# Altium schematic symbol library 学习.SchLib: 85 symbols
Pins are listed as number, name and electrical type; pins without a type are passive.

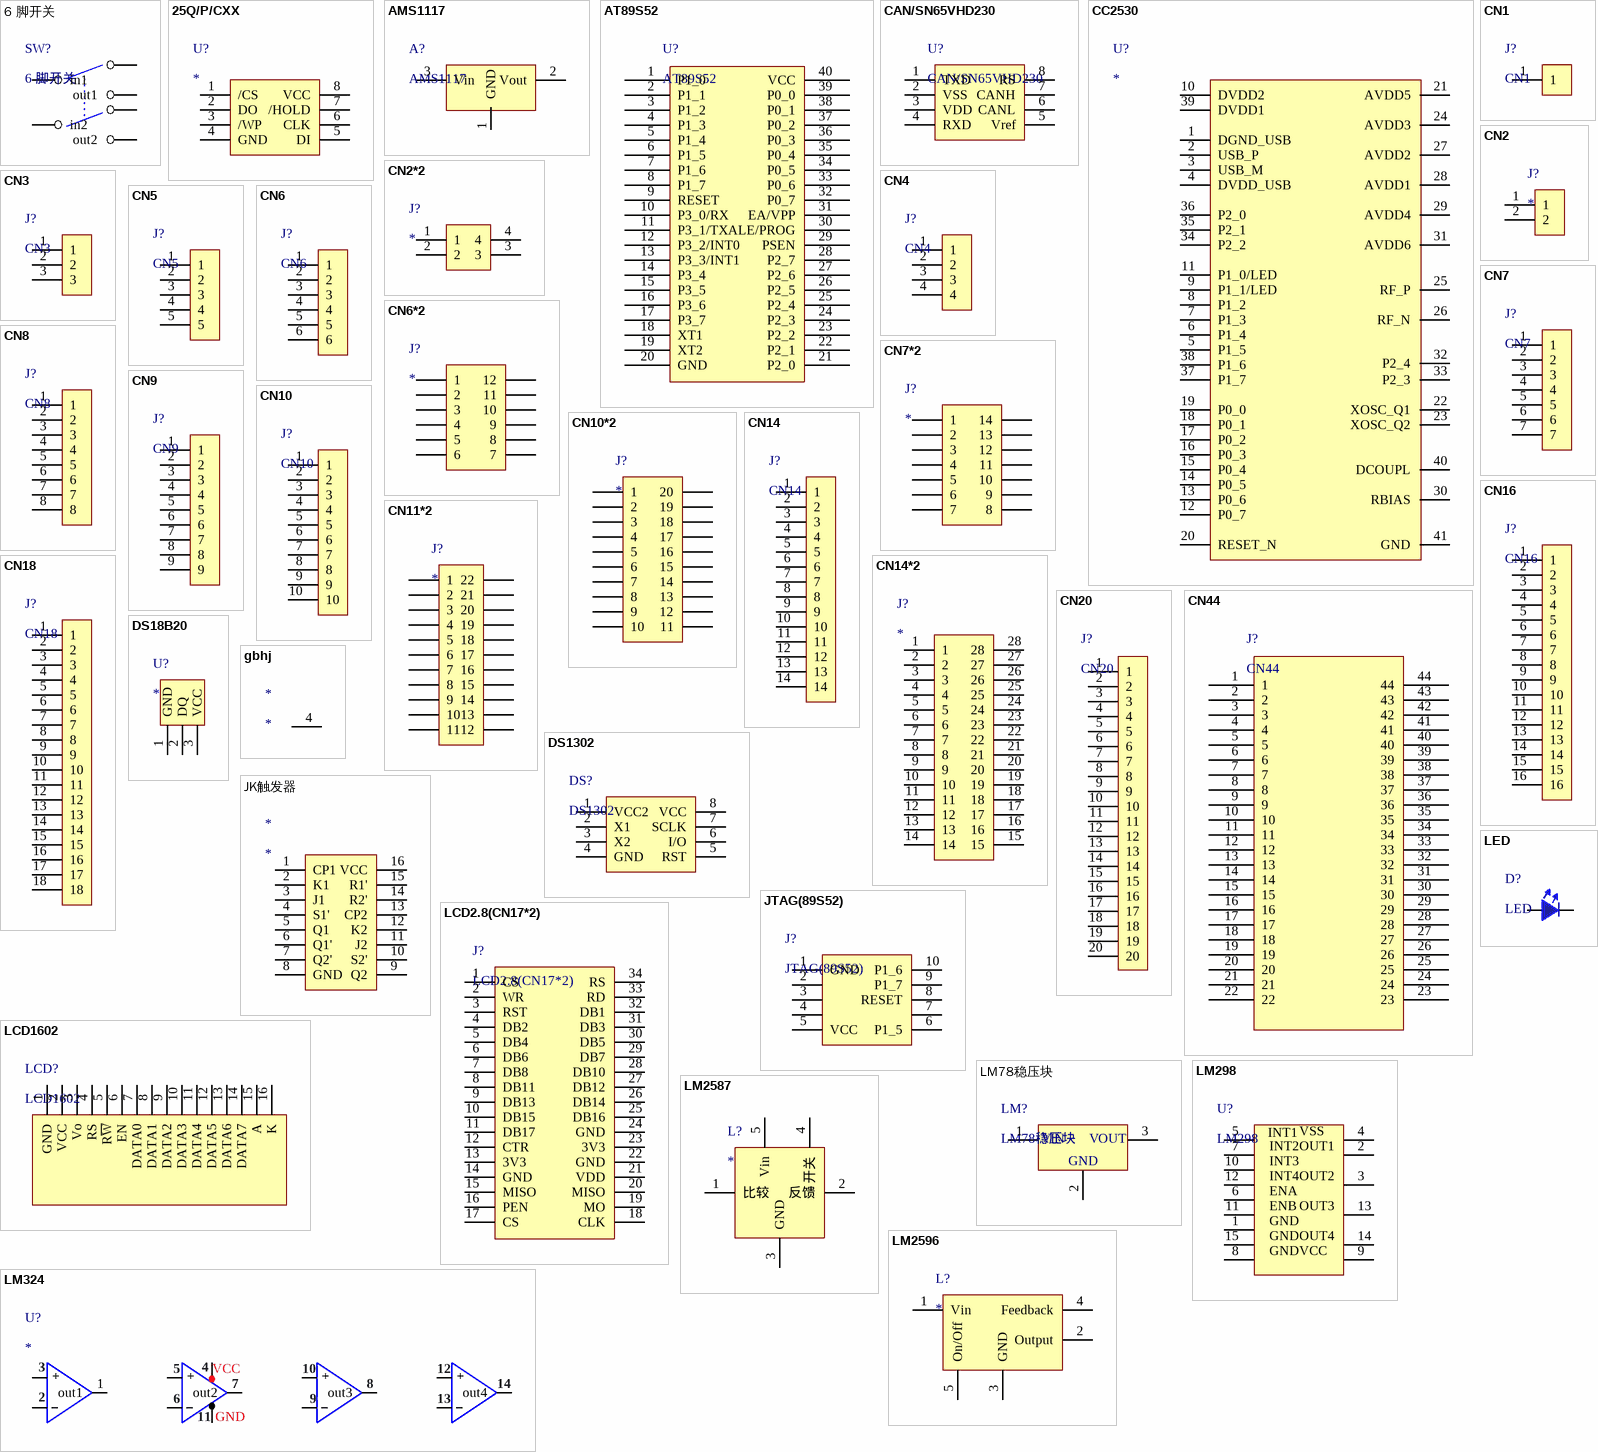
[diagram p0: symbols 6 脚开关 to LM2596]

## 6 脚开关
designator SW?
footprint 6 脚开关
footprint 6脚扳动开关
pins: 1 in1, 2 out1, 3, 4 in2, 5 out2, 6

## 25Q/P/CXX
designator U?
25Q/P/CXX
footprint 25Q/PXX
footprint 25Q/PXX
pins: 1 /CS, 2 DO, 3 /WP, 4 GND, 5 DI, 6 CLK, 7 /HOLD, 8 VCC

## AMS1117
designator A?
footprint AMS1117
pins: 1 GND, 2 Vout, 3 Vin, 4 Vout hidden

## AT89S52
designator U?
footprint AT89S52 - duplicate
pins: 1 P1_0, 2 P1_1, 3 P1_2, 4 P1_3, 5 P1_4, 6 P1_5, 7 P1_6, 8 P1_7, 9 RESET, 10 P3_0/RX, 11 P3_1/TX, 12 P3_2/INT0, 13 P3_3/INT1, 14 P3_4, 15 P3_5, 16 P3_6, 17 P3_7, 18 XT1, 19 XT2, 20 GND, 21 P2_0, 22 P2_1, 23 P2_2, 24 P2_3, 25 P2_4, 26 P2_5, 27 P2_6, 28 P2_7, 29 PSEN, 30 ALE/PROG, 31 EA/VPP, 32 P0_7, 33 P0_6, 34 P0_5, 35 P0_4, 36 P0_3, 37 P0_2, 38 P0_1, 39 P0_0, 40 VCC

## CAN/SN65VHD230
designator U?
footprint CAN/SN65VHD230
footprint 直插芯片（8 脚）
pins: 1 TXD, 2 VSS, 3 VDD, 4 RXD, 5 Vref, 6 CANL, 7 CANH, 8 RS

## CC2530
designator U?
footprint CC2530
pins: 1 DGND_USB, 2 USB_P, 3 USB_M, 4 DVDD_USB, 5 P1_5, 6 P1_4, 7 P1_3, 8 P1_2, 9 P1_1/LED, 10 DVDD2, 11 P1_0/LED, 12 P0_7, 13 P0_6, 14 P0_5, 15 P0_4, 16 P0_3, 17 P0_2, 18 P0_1, 19 P0_0, 20 RESET_N, 21 AVDD5, 22 XOSC_Q1, 23 XOSC_Q2, 24 AVDD3, 25 RF_P, 26 RF_N, 27 AVDD2, 28 AVDD1, 29 AVDD4, 30 RBIAS, 31 AVDD6, 32 P2_4, 33 P2_3, 34 P2_2, 35 P2_1, 36 P2_0, 37 P1_7, 38 P1_6, 39 DVDD1, 40 DCOUPL, 41 GND

## CN1
designator J?
footprint CN1
pins: 1

## CN2
designator J?
CN2
footprint CN2
pins: 1, 2

## CN2*2
designator J?
CN2*2
footprint CN2*2
pins: 1, 2, 3, 4

## CN3
designator J?
footprint CN3
pins: 1, 2, 3

## CN4
designator J?
footprint CN4
pins: 1, 2, 3, 4

## CN5
designator J?
footprint CN5
pins: 1, 2, 3, 4, 5

## CN6
designator J?
footprint CN6
pins: 1, 2, 3, 4, 5, 6

## CN6*2
designator J?
footprint CN6*2
pins: 1, 2, 3, 4, 5, 6, 7, 8, 9, 10, 11, 12

## CN7
designator J?
footprint CN7
pins: 1, 2, 3, 4, 5, 6, 7

## CN7*2
designator J?
footprint CN7*2
pins: 1, 2, 3, 4, 5, 6, 7, 8, 9, 10, 11, 12, 13, 14

## CN8
designator J?
footprint CN8
pins: 1, 2, 3, 4, 5, 6, 7, 8

## CN9
designator J?
footprint CN9
pins: 1, 2, 3, 4, 5, 6, 7, 8, 9

## CN10
designator J?
footprint CN10
pins: 1, 2, 3, 4, 5, 6, 7, 8, 9, 10

## CN10*2
designator J?
CN10*2
footprint CN10*2
pins: 1, 2, 3, 4, 5, 6, 7, 8, 9, 10, 11, 12, 13, 14, 15, 16, 17, 18, 19, 20

## CN11*2
designator J?
CN11*2
footprint CN11*2
pins: 1, 2, 3, 4, 5, 6, 7, 8, 9, 10, 11, 12, 13, 14, 15, 16, 17, 18, 19, 20, 21, 22

## CN14
designator J?
footprint CN14
pins: 1, 2, 3, 4, 5, 6, 7, 8, 9, 10, 11, 12, 13, 14

## CN14*2
designator J?
CN14*2
footprint CN14*2
pins: 1, 2, 3, 4, 5, 6, 7, 8, 9, 10, 11, 12, 13, 14, 15, 16, 17, 18, 19, 20, 21, 22, 23, 24, 25, 26, 27, 28

## CN16
designator J?
footprint CN16
pins: 1, 2, 3, 4, 5, 6, 7, 8, 9, 10, 11, 12, 13, 14, 15, 16

## CN18
designator J?
footprint CN18
pins: 1, 2, 3, 4, 5, 6, 7, 8, 9, 10, 11, 12, 13, 14, 15, 16, 17, 18

## CN20
designator J?
footprint CN20
pins: 1, 2, 3, 4, 5, 6, 7, 8, 9, 10, 11, 12, 13, 14, 15, 16, 17, 18, 19, 20

## CN44
designator J?
footprint CN44
pins: 1, 2, 3, 4, 5, 6, 7, 8, 9, 10, 11, 12, 13, 14, 15, 16, 17, 18, 19, 20, 21, 22, 23, 24, 25, 26, 27, 28, 29, 30, 31, 32, 33, 34, 35, 36, 37, 38, 39, 40, 41, 42, 43, 44

## DS18B20
designator U?
DS18B20
footprint DS18B20
pins: 1 GND, 2 DQ, 3 VCC

## DS1302
designator DS?
footprint DS1302
pins: 1 VCC2, 2 X1, 3 X2, 4 GND, 5 RST, 6 I/O, 7 SCLK, 8 VCC

## gbhj
designator *
pins: 4

## JK触发器
designator *
footprint 直插芯片（16 脚）
pins: 1 CP1, 2 K1, 3 J1, 4 S1', 5 Q1, 6 Q1', 7 Q2', 8 GND, 9 Q2, 10 S2', 11 J2, 12 K2, 13 CP2, 14 R2', 15 R1', 16 VCC

## JTAG(89S52)
designator J?
footprint JTAG(89S52)
pins: 1 GND, 2, 3, 4, 5 VCC, 6 P1_5, 7, 8 RESET, 9 P1_7, 10 P1_6

## LCD2.8(CN17*2)
designator J?
footprint LCD2.8(CN17*2)
footprint LCD2.8(CN17*2)
footprint TFT2.8(14*2)
pins: 1 CS, 2 WR, 3 RST, 4 DB2, 5 DB4, 6 DB6, 7 DB8, 8 DB11, 9 DB13, 10 DB15, 11 DB17, 12 CTR, 13 3V3, 14 GND, 15 MISO, 16 PEN, 17 CS, 18 CLK, 19 MO, 20 MISO, 21 VDD, 22 GND, 23 3V3, 24 GND, 25 DB16, 26 DB14, 27 DB12, 28 DB10, 29 DB7, 30 DB5, 31 DB3, 32 DB1, 33 RD, 34 RS

## LCD1602
designator LCD?
footprint LCD1602
footprint LCD1602
pins: 1 GND, 2 VCC, 3 Vo, 4 RS, 5 R~{W}, 6 EN, 7 DATA0, 8 DATA1, 9 DATA2, 10 DATA3, 11 DATA4, 12 DATA5, 13 DATA6, 14 DATA7, 15 A, 16 K

## LED
designator D?
footprint LED
footprint 0805
footprint LED
footprint LED
pins: 1, 2

## LM78稳压块
designator LM?
footprint LM78稳压块
pins: 1 VIN, 2 GND, 3 VOUT
text: V; IN; OUT

## LM298
designator U?
footprint LM298
pins: 1, 2, 3, 4, 5, 6, 7, 8, 9, 10, 11, 12, 13, 14, 15
text: INT1; VSS; INT2; OUT1; INT3; INT4; OUT2; ENA; ENB; OUT3; GND; OUT4; VCC

## LM324
designator U?
LM324
footprint LM324
footprint LM324(贴）
pins: 1 out1, 2, 3, 4, 5, 6, 7 out2, 8 out3, 9, 10, 11, 12, 13, 14 out4
text: VCC; +; GND

## LM2587
designator L?
LM2587
footprint LM2596/2587
pins: 1 比较, 2 反馈, 3 GND, 4 开关, 5 Vin

## LM2596
designator L?
LM2596
footprint LM2596/2587
pins: 1 Vin, 2 Output, 3 GND, 4 Feedback, 5 On/Off

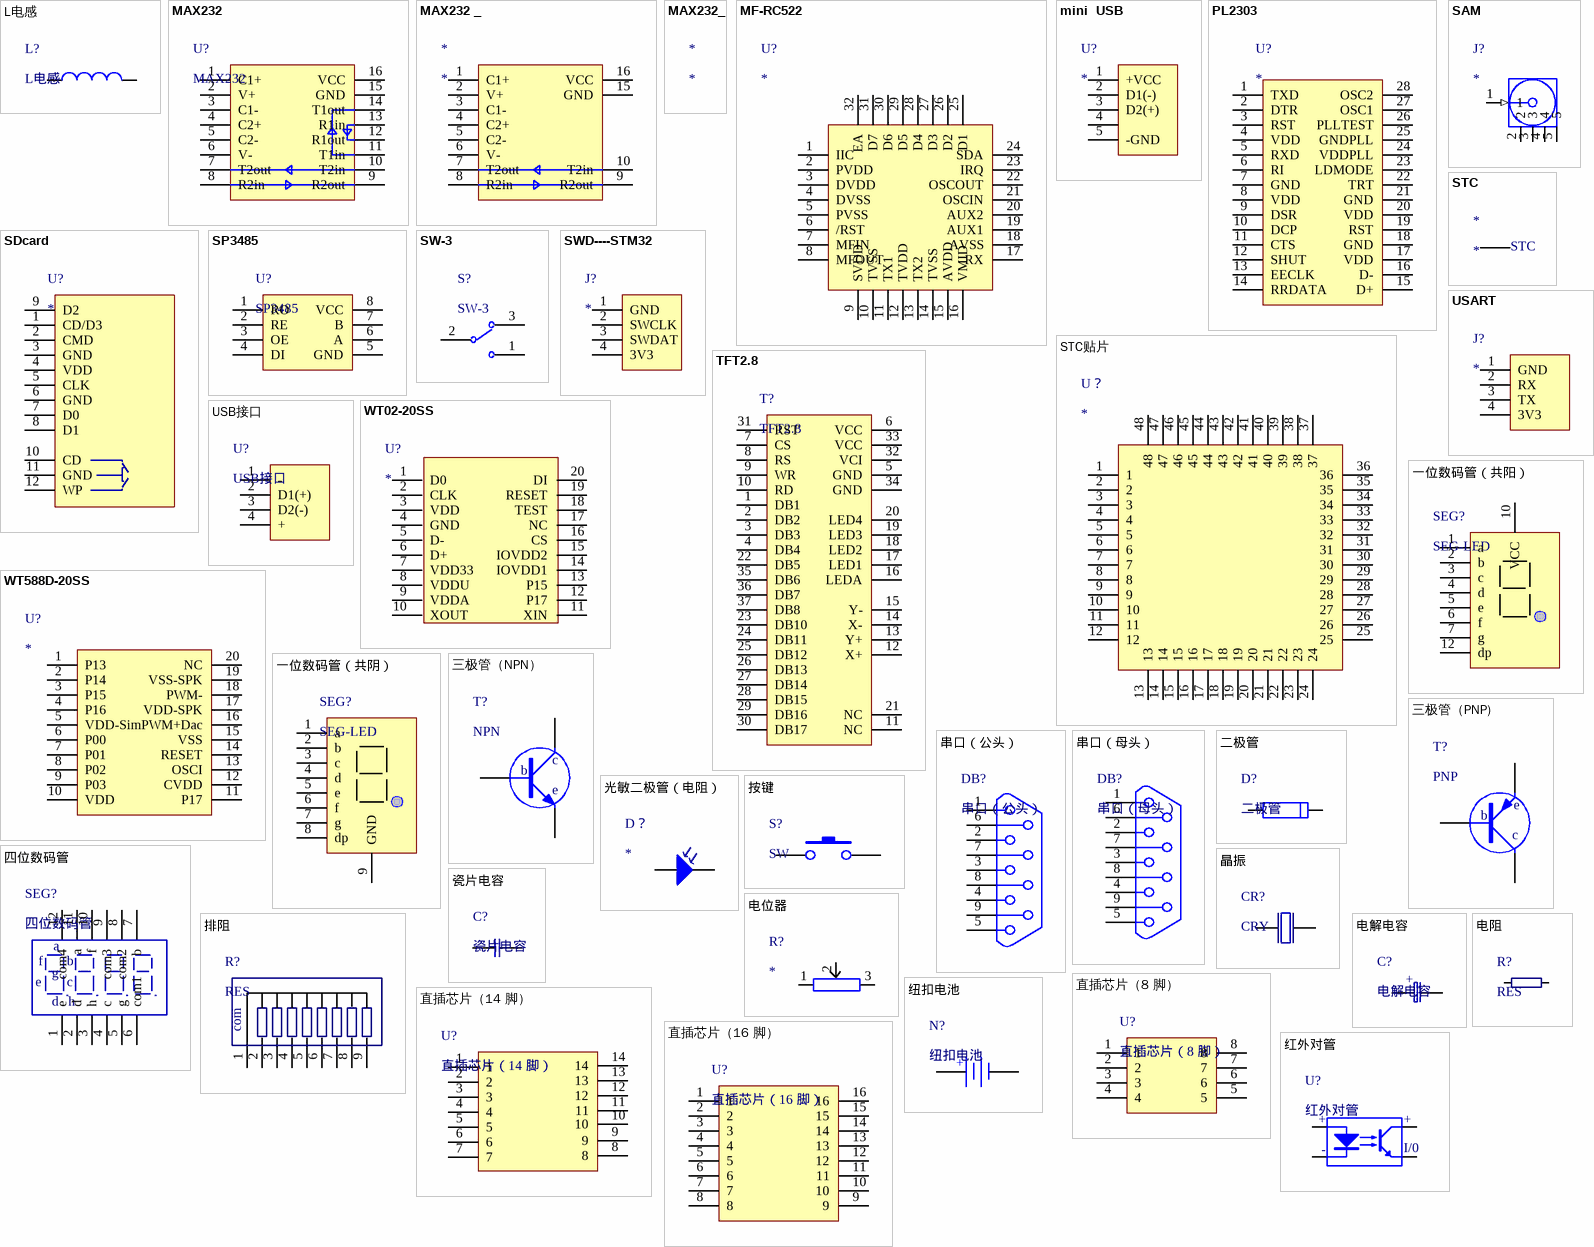
[diagram p1: symbols L电感 to 纽扣电池]

## L电感
designator L?
footprint L电感
footprint 贴片电感
footprint 电阻
footprint 0805
pins: 1, 2

## MAX232
designator U?
footprint MAX232
footprint MAX-3232
pins: 1 C1+, 2 V+, 3 C1-, 4 C2+, 5 C2-, 6 V-, 7 T2out, 8 R2in, 9 R2out, 10 T2in, 11 T1in, 12 R1out, 13 R1in, 14 T1out, 15 GND, 16 VCC

## MAX232 _
designator *
pins: 1 C1+, 2 V+, 3 C1-, 4 C2+, 5 C2-, 6 V-, 7 T2out, 8 R2in, 9 R2out, 10 T2in, 15 GND, 16 VCC

## MAX232_
designator *

## MF-RC522
designator U?
MF-RC522
footprint MF-RC522
pins: 1 IIC, 2 PVDD, 3 DVDD, 4 DVSS, 5 PVSS, 6 /RST, 7 MFIN, 8 MFOUT, 9 SVDD, 10 TVSS, 11 TX1, 12 TVDD, 13 TX2, 14 TVSS, 15 AVDD, 16 VMID, 17 RX, 18 AVSS, 19 AUX1, 20 AUX2, 21 OSCIN, 22 OSCOUT, 23 IRQ, 24 SDA, 25 D1, 26 D2, 27 D3, 28 D4, 29 D5, 30 D6, 31 D7, 32 EA

## mini  USB
designator U?
mini  USB
footprint mini USB
pins: 1 +VCC, 2 D1(-), 3 D2(+), 4, 5 -GND

## PL2303
designator U?
PL2303
footprint PL2303
pins: 1 TXD, 2 DTR, 3 RST, 4 VDD, 5 RXD, 6 RI, 7 GND, 8 VDD, 9 DSR, 10 DCP, 11 CTS, 12 SHUT, 13 EECLK, 14 RRDATA, 15 D+, 16 D-, 17 VDD, 18 GND, 19 RST, 20 VDD, 21 GND, 22 TRT, 23 LDMODE, 24 VDDPLL, 25 GNDPLL, 26 PLLTEST, 27 OSC1, 28 OSC2

## SAM
designator J?
footprint SMA
pins: 1 (in), 2, 3, 4, 5

## SDcard
designator U?
SDcard
footprint SDcard
pins: 1 CD/D3, 2 CMD, 3 GND, 4 VDD, 5 CLK, 6 GND, 7 D0, 8 D1, 9 D2, 10 CD, 11 GND, 12 WP, 13 GND hidden to GND, 14 GND hidden to GND, 15 GND hidden to GND, 16 GND hidden to GND

## SP3485
designator U?
footprint SP3485
footprint 直插芯片（8 脚）
pins: 1 RO, 2 RE, 3 OE, 4 DI, 5 GND, 6 A, 7 B, 8 VCC

## STC
designator *
pins: 1

## STC贴片
designator U？
STC贴片
pins: 1, 2, 3, 4, 5, 6, 7, 8, 9, 10, 11, 12, 13, 14, 15, 16, 17, 18, 19, 20, 21, 22, 23, 24, 25, 26, 27, 28, 29, 30, 31, 32, 33, 34, 35, 36, 37, 38, 39, 40, 41, 42, 43, 44, 45, 46, 47, 48

## SW-3
designator S?
footprint SW-3
pins: 1, 2, 3

## SWD----STM32
designator J?
SWD----STM32
footprint CN4
pins: 1 GND, 2 SWCLK, 3 SWDAT, 4 3V3

## TFT2.8
designator T?
footprint TFT2.8
footprint TFT2.8(14*2)
pins: 1 DB1, 2 DB2, 3 DB3, 4 DB4, 5 GND, 6 VCC, 7 CS, 8 RS, 9 WR, 10 RD, 11 NC, 12 X+, 13 Y+, 14 X-, 15 Y-, 16 LEDA, 17 LED1, 18 LED2, 19 LED3, 20 LED4, 21 NC, 22 DB5, 23 DB10, 24 DB11, 25 DB12, 26 DB13, 27 DB14, 28 DB15, 29 DB16, 30 DB17, 31 RST, 32 VCI, 33 VCC, 34 GND, 35 DB6, 36 DB7, 37 DB8, 40 hidden, 41 hidden

## USART
designator J?
USART
footprint CN4
pins: 1 GND, 2 RX, 3 TX, 4 3V3

## USB接口
designator U?
footprint USB接口A
footprint USB接口B
footprint USB（公头）
footprint USB(公头1）
pins: 1 -, 2 D1(+), 3 D2(-), 4 +

## WT02-20SS
designator U?
WT02-20SS
footprint WTU02-20SS
pins: 1 D0, 2 CLK, 3 VDD, 4 GND, 5 D-, 6 D+, 7 VDD33, 8 VDDU, 9 VDDA, 10 XOUT, 11 XIN, 12 P17, 13 P15, 14 IOVDD1, 15 IOVDD2, 16 CS, 17 NC, 18 TEST, 19 RESET, 20 DI

## WT588D-20SS
designator U?
WT588D-20SS
footprint WT588D-20SS
footprint WT588D-20SS
pins: 1 P13, 2 P14, 3 P15, 4 P16, 5 VDD-Sim, 6 P00, 7 P01, 8 P02, 9 P03, 10 VDD, 11 P17, 12 CVDD, 13 OSCI, 14 RESET, 15 VSS, 16 PWM+Dac, 17 VDD-SPK, 18 PWM-, 19 VSS-SPK, 20 NC

## 一位数码管（共阳）
designator SEG?, comment SEG-LED
footprint 一位数码管
pins: 1 a, 2 b, 3 c, 4 d, 5 e, 6 f, 7 g, 10 VCC, 12 dp

## 一位数码管（共阴）
designator SEG?, comment SEG-LED
footprint 一位数码管
pins: 1 a, 2 b, 3 c, 4 d, 5 e, 6 f, 7 g, 8 dp, 9 GND

## 三极管（NPN）
designator T?, comment NPN
footprint 三极管
footprint SOT-23
pins: 1 E, 2 B, 3 C
text: c; b; e

## 三极管（PNP)
designator T?, comment PNP
footprint 三极管
pins: 1 E, 2 B, 3 C
text: e; b; c

## 串口（公头）
designator DB?
footprint 串口（公头)
pins: 1, 2, 3, 4, 5, 6, 7, 8, 9

## 串口（母头）
designator DB?
footprint 串口（母头）
pins: 1, 2, 3, 4, 5, 6, 7, 8, 9

## 二极管
designator D?
footprint 二极管
footprint 二极管小
pins: 1, 2

## 光敏二极管（电阻）
designator D？
光敏二极管（电阻）
footprint 光敏二极管
pins: 1, 2

## 四位数码管
designator SEG?
footprint 四位数码管
pins: 1 e, 2 d, 3 h, 4 c, 5 g, 6 com1, 7 b, 8 com2, 9 com3, 10 f, 11 a, 12 com4

## 按键
designator S?, comment SW
footprint 按键
pins: 1, 2

## 排阻
designator R?, comment RES
footprint 排阻
pins: 1, 2, 3, 4, 5, 6, 7, 8, 9
text: com

## 晶振
designator CR?, comment CRY
footprint 晶振
footprint 柱形晶振
footprint 贴片晶振
footprint 四角贴片晶振
footprint 片状晶振
pins: 1, 2

## 瓷片电容
designator C?
footprint 瓷片电容
footprint 0805
footprint 0805
pins: 1, 2

## 电位器
designator R?
电位器
footprint CN3
pins: 1 10, 2, 3

## 电解电容
designator C?
footprint 电解电容
footprint 0805
pins: 1, 2
text: +

## 电阻
designator R?, comment RES
footprint 电阻
footprint 电阻
footprint 0805
footprint 0805
pins: 1, 2

## 直插芯片（8 脚）
designator U?
footprint 直插芯片（8 脚）
pins: 1, 2, 3, 4, 5, 6, 7, 8

## 直插芯片（14 脚）
designator U?
footprint 直插芯片（14 脚）
pins: 1, 2, 3, 4, 5, 6, 7, 8, 9, 10, 11, 12, 13, 14

## 直插芯片（16 脚）
designator U?
footprint 直插芯片（16 脚）
pins: 1, 2, 3, 4, 5, 6, 7, 8, 9, 10, 11, 12, 13, 14, 15, 16

## 红外对管
designator U?
footprint 红外对管
pins: 1 +, 2 LED Cathode, 3 Emitter, 4 Collector
text: -; I/0

## 纽扣电池
designator N?
footprint 纽扣电池
pins: 1, 2
text: +

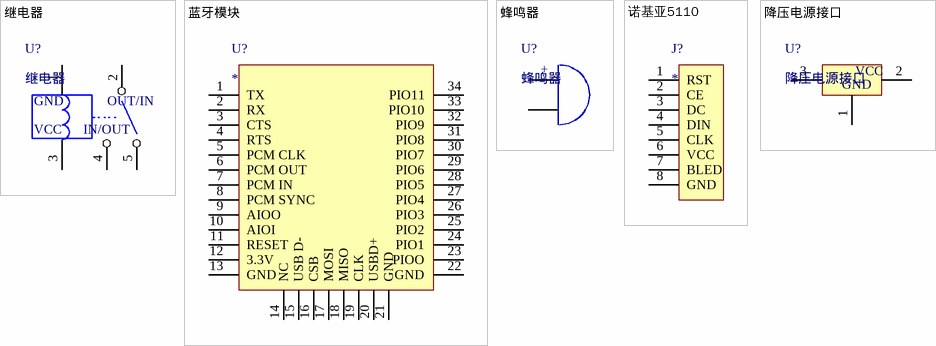
[diagram p2: symbols 继电器 to 降压电源接口]

## 继电器
designator U?
footprint 继电器
pins: 1 GND, 2 OUT, 3 VCC, 4 IN, 5 悬空
text: OUT/IN; IN/OUT

## 蓝牙模块
designator U?
蓝牙模块
footprint 蓝牙模块
pins: 1 TX, 2 RX, 3 CTS, 4 RTS, 5 PCM CLK, 6 PCM OUT, 7 PCM IN, 8 PCM SYNC, 9 AIOO, 10 AIOI, 11 RESET, 12 3.3V, 13 GND, 14 NC, 15 USB D-, 16 CSB, 17 MOSI, 18 MISO, 19 CLK, 20 USBD+, 21 GND, 22 GND, 23 PIOO, 24 PIO1, 25 PIO2, 26 PIO3, 27 PIO4, 28 PIO5, 29 PIO6, 30 PIO7, 31 PIO8, 32 PIO9, 33 PIO10, 34 PIO11

## 蜂鸣器
designator U?
footprint 蜂鸣器
pins: 1, 2
text: +

## 诺基亚5110
designator J?
诺基亚5110
footprint 诺基亚5110
pins: 1 RST, 2 CE, 3 DC, 4 DIN, 5 CLK, 6 VCC, 7 BLED, 8 GND

## 降压电源接口
designator U?
footprint 降压电源接口
pins: 1 GND, 2 VCC, 3